# Altium integrated library RMCF0603FT634R.IntLib: 1 symbol
Pins are listed as number, name and electrical type; pins without a type are passive.

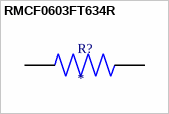
[diagram p0: symbol RMCF0603FT634R]

## RMCF0603FT634R
designator R?
MP: RMCF0603FT634R; Package: None; Price: None; Value: *; Availability: Unavailable
footprint RESC1508X55N
pins: 1, 2